# Altium footprint library Small Outline Package THC.PcbLib: 1 footprints
Each footprint in its own frame and in the unit in brackets; x right, y up, seen from the top. Pads: shape width x height; smd on the part's side, far side on the other; paste and mask are expansions set on the pad; w line width, h text height; cw(c..) or ccw(c..) is an arc to the next point about the centre after c.
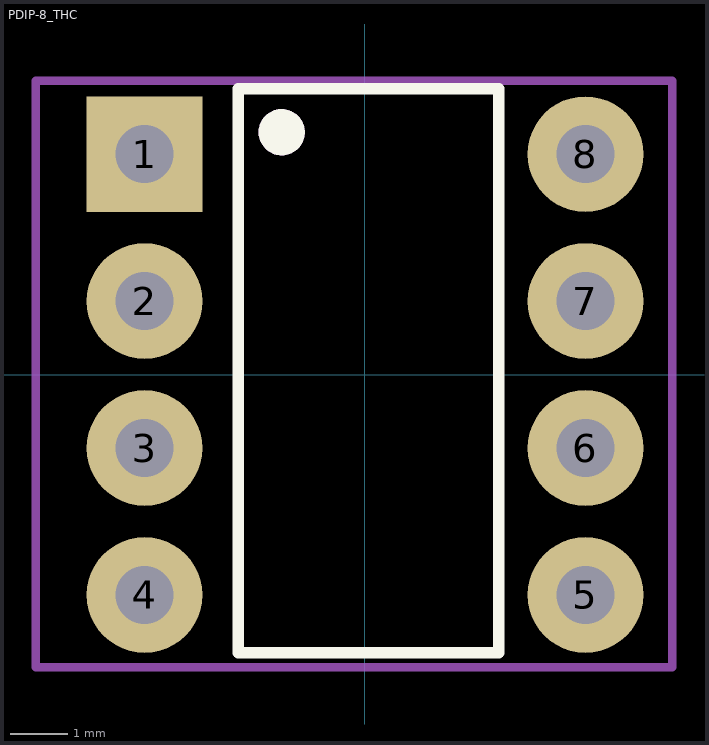
[diagram p0: the footprint, top view; thin cyan lines are the x and y axes]

## PDIP-8_THC [mm]
pads (8):
  rect 2x2 hole 1: 1(-3.81,3.81)
  round 2 hole 1: 2(-3.81,1.27) 3(-3.81,-1.27) 4(-3.81,-3.81) 5(3.81,-3.81) 6(3.81,-1.27) 7(3.81,1.27) 8(3.81,3.81)
Top Overlay:
  circle w0.4: c-1.44,4.19 r0.2
  lines w0.2: -2.19,-4.81 2.31,-4.81 2.31,4.94 -2.19,4.94 -2.19,-4.81
Mechanical 13:
  circle w0.4: c-1.44,4.19 r0.2
  lines w0.152: -5.69,-5.06 -5.69,5.08 5.31,5.08 5.31,-5.06 -5.69,-5.06
3D body "step_temp.STEP": height 5.08, standoff -3.17, extent -5.588,-4.794 5.334,4.794